# EAGLE library part 171010550 (library Power modules)
MagI3C Power Module VDMM – Variable Step Down MicroModule Manufacturer's datasheet <https://katalog.we-online.com/pm/datasheet/171010550.pdf>
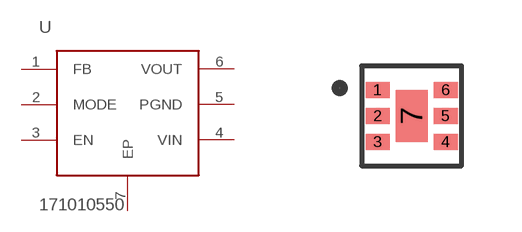
[diagram p3: symbol with the pads of 171010550; footprint 171010550]

Designator prefix U

## 171010550 (CREATED_BY: PCBLayout.com; MANUFACTURER: WURTH ELEKTRONIK; MPN: 171010550; PACKAGE: LGA-6EP)  [171010550]
1  FB  in
2  MODE  in
3  EN  in
4  VIN  pwr
5  PGND  pwr
6  VOUT  pwr
7  EP  pwr

## Footprint 171010550 (pad centres in mm)
smd 0.6 x 0.4: 1 -0.85,0.65; 2 -0.85,0; 3 -0.85,-0.65; 4 0.85,-0.65; 5 0.85,0; 6 0.85,0.65
smd 0.8 x 1.3: 7 0,0